# EAGLE library part ATECC608B-MAHDA-T (library ATECC608B-MAHDA-T)
CryptoAuthentication 8-Pin UDFN EP T/R Source: Datasheet <http://ww1.microchip.com/downloads/en/DeviceDoc/ATECC608B-CryptoAuthentication-Device-Summary-Data-Sheet-DS40002239A.pdf>
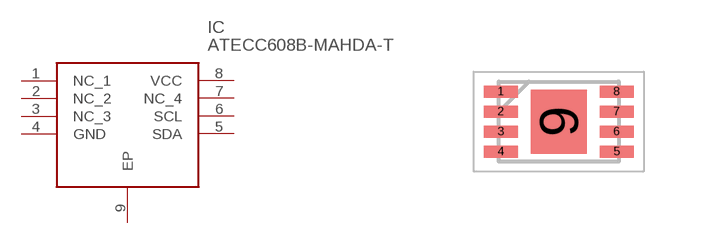
[diagram p0: symbol with the pads of SON50P300X200X60-9N; footprint SON50P300X200X60-9N]

Designator prefix IC

## ATECC608B-MAHDA-T (Description: CryptoAuthentication 8-Pin UDFN EP T/R; Height: 0.6mm; Manufacturer_Name: Microchip; Manufacturer_Part_Number: ATECC608B-MAHDA-T; Mouser_Part_Number: 579-TECC608B-MAHDA-T; Mouser_Price-Stock: https://www.mouser.co.uk/ProductDetail/Microchip-Technology/ATECC608B-MAHDA-T?qs=W%2FMpXkg%252BdQ71cGyt0Wo3Jw%3D%3D)  [SON50P300X200X60-9N]
1  NC_1
2  NC_2
3  NC_3
4  GND
5  SDA
6  SCL
7  NC_4
8  VCC
9  EP

## Footprint SON50P300X200X60-9N (pad centres in mm)
8-Lead Plastic DFN (MN)
smd 0.85 x 0.3: 1 -1.45,0.75; 2 -1.45,0.25; 3 -1.45,-0.25; 4 -1.45,-0.75; 5 1.45,-0.75; 6 1.45,-0.25; 7 1.45,0.25; 8 1.45,0.75
smd 1.4 x 1.6: 9 0,0